# Altium schematic symbol library КП303.SchLib: 1 symbol
Pins are listed as number, name and electrical type; pins without a type are passive.

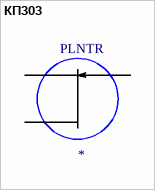
[diagram p0: symbol КП303]

## КП303
designator PLNTR
N type
footprint КП303
pins: 1, 2, 3